# Altium schematic symbol library CAN_BUS.SCHLIB: 9 symbols
Pins are listed as number, name and electrical type; pins without a type are passive.

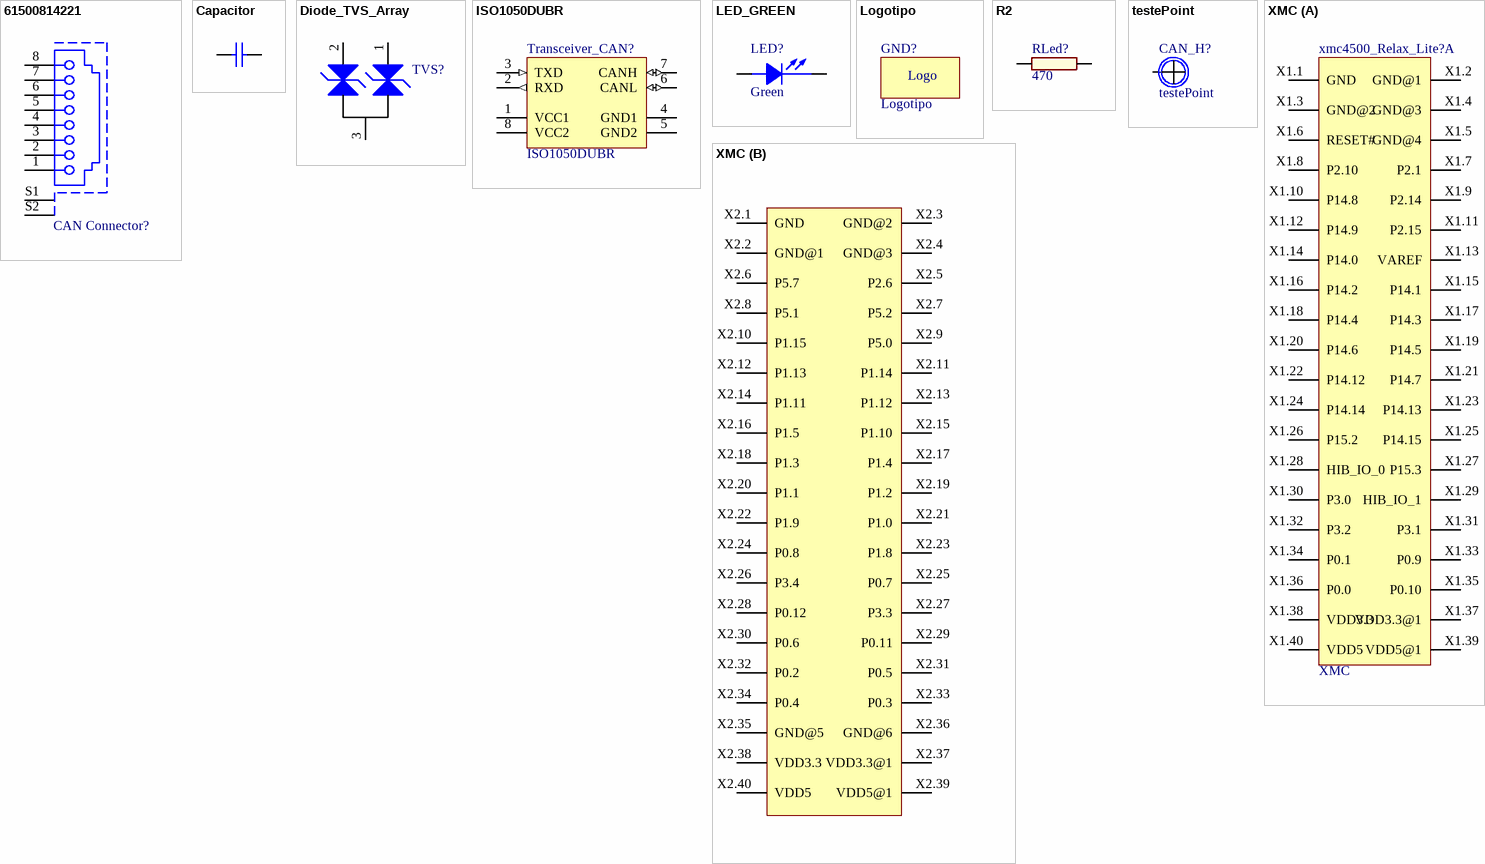
[diagram p0: symbols 61500814221 to XMC]

## 61500814221
designator CAN Connector?  (value not drawn)
Modular Jack Horizontal Shielded 8P8C Tab Down WR-MJ; Rated Current: 1.5 A; Working Voltage: 120 VAC; Withstanding Voltage: 1000 VAC; Port: 1x1; ComponentLink1Description: Manufacturer; ComponentLink1URL: http://www.we-online.de; ComponentLink2Description: Datasheet; ComponentLink2URL: http://katalog.we-online.com/em/datasheet/61500814221.pdf; Part Number: 61500814221; Published Date: September 2017; Publisher: Wurth Elektronik; Pin Number: 8P8C; Entrance: Horizontal
footprint 61500814221
pins: 1, 2, 3, 4, 5, 6, 7, 8, S1 Shield, S2 Shield

## Capacitor
designator C_?  (value not drawn)
Value: 0.01 uF
footprint CAPC1005M (Chip Capacitor, Body 1.0x0.5mm, IPC Low Density)
footprint CAPC_0402 (Chip Capacitor, Body 1.0x0.5mm, IPC Low Density)
footprint CAPC_0805 (Chip Capacitor, Body 2.0x1.3mm, IPC Low Density)
footprint CAPC_1210 (Chip Capacitor, Body 3.2x2.5mm, IPC Low Density)
footprint CAPC_1206 (Chip Capacitor, Body 3.2x1.6mm, IPC Low Density)
footprint CAPC_1812 (Chip Capacitor)
pins: 1, 2

## Diode_TVS_Array
designator TVS?  (value not drawn)
Value: SM24CANB-02HTG
footprint SOT23-3 (SOT23, 3)
pins: 1, 2, 3

## ISO1050DUBR
designator Transceiver_CAN?
Isolated CAN Transceiver, -55 to 105 degC, 8-pin SOP (DUB), Green (RoHS & no Sb/Br)
footprint DUB8_M (SOP, 8-Leads, Body 9.5x6.62mm, Pitch 2.54mm, IPC Low Density)
footprint DUB8_L (SOP, 8-Leads, Body 9.5x6.62mm, Pitch 2.54mm, IPC High Density)
footprint DUB8_M (SOP, 8-Leads, Body 9.5x6.62mm, Pitch 2.54mm, IPC Low Density)
footprint DUB8_M (SOP, 8-Leads, Body 9.5x6.62mm, Pitch 2.54mm, IPC Low Density)
pins: 1 VCC1 (power), 2 RXD (out), 3 TXD (in), 4 GND1 (power), 5 GND2 (power), 6 CANL (io), 7 CANH (io), 8 VCC2 (power)

## LED_GREEN
designator LED?, comment Green
LED 2X1.2MM 570NM GN WTR CLR SMD; Manufacturer: Kingbright; MPN: APT2012CGCK; VPN: 754-1127-1-ND; Vendor: Digikey; Value: Green
footprint CD2012-0805 (Chip Diode; Body 2.0 x 1.3 mm (LxW typ))
footprint LED100 - 3MM; pin to pad C>K
footprint LED100 - 5MM; pin to pad C>K
pins: A ANODE, C CATHODE

## Logotipo
designator GND?
footprint three_phase_converter (94x57mm Sem sensores)
footprint three_phase_converter_Sensor (94x57mm Com sensores)
footprint ucontroller (Micro Logotipo 15x15mm)
footprint FEUP_LOGO_1 (16.5 x 6.5 mm)
footprint FEUP_LOGO_2 (26.5 x 10.5 mm)
footprint PowerFlow_LOGO (16.5 x 6.5 mm)
footprint Dangerous_Logo (Micro Logotipo 15x15mm)
footprint DAB (94x57mm Sem sensores)
text: Logo

## R2
designator RLed?, comment 470
Thick film resistor, SMD 0402, 1/16W, 1%; Manufacturer: Generic; Value: 470
footprint RESC1005M (Chip Resistor, Body 1.1x0.5mm, IPC Low Density)
footprint RESC_0805 (Chip Resistor, Body 2.0x1.3mm, IPC Low Density)
footprint RESC_1206 (Chip Resistor, Body 3.2x1.6mm, IPC Low Density)
pins: 1, 2

## testePoint
designator CAN_H?
footprint PAD 2.5MM - FURO 1.25MM
footprint PAD_Dia 16MM - FURO M6
footprint PAD 2MM - FURO 1MM
footprint PAD 4MM - FURO 2MM
footprint PAD 6MM X 3.5MM- SMD
footprint PAD 2.54MM - FURO 1.02MM
footprint PAD 2MM - FURO 1.1MM
footprint PAD 6MM - FURO M4
footprint PAD_Oval (3x6mm - 1,2x4,2 Hole)
pins: 1

## XMC
designator xmc4500_Relax_Lite?
footprint XMC4500_Relax_Lite
part A pins: X1.1 GND, X1.2 GND@1, X1.3 GND@2, X1.4 GND@3, X1.5 GND@4, X1.6 RESET#, X1.7 P2.1, X1.8 P2.10, X1.9 P2.14, X1.10 P14.8, X1.11 P2.15, X1.12 P14.9, X1.13 VAREF, X1.14 P14.0, X1.15 P14.1, X1.16 P14.2, X1.17 P14.3, X1.18 P14.4, X1.19 P14.5, X1.20 P14.6, X1.21 P14.7, X1.22 P14.12, X1.23 P14.13, X1.24 P14.14, X1.25 P14.15, X1.26 P15.2, X1.27 P15.3, X1.28 HIB_IO_0, X1.29 HIB_IO_1, X1.30 P3.0, X1.31 P3.1, X1.32 P3.2, X1.33 P0.9, X1.34 P0.1, X1.35 P0.10, X1.36 P0.0, X1.37 VDD3.3@1, X1.38 VDD3.3, X1.39 VDD5@1, X1.40 VDD5
part B pins: X2.1 GND, X2.2 GND@1, X2.3 GND@2, X2.4 GND@3, X2.5 P2.6, X2.6 P5.7, X2.7 P5.2, X2.8 P5.1, X2.9 P5.0, X2.10 P1.15, X2.11 P1.14, X2.12 P1.13, X2.13 P1.12, X2.14 P1.11, X2.15 P1.10, X2.16 P1.5, X2.17 P1.4, X2.18 P1.3, X2.19 P1.2, X2.20 P1.1, X2.21 P1.0, X2.22 P1.9, X2.23 P1.8, X2.24 P0.8, X2.25 P0.7, X2.26 P3.4, X2.27 P3.3, X2.28 P0.12, X2.29 P0.11, X2.30 P0.6, X2.31 P0.5, X2.32 P0.2, X2.33 P0.3, X2.34 P0.4, X2.35 GND@5, X2.36 GND@6, X2.37 VDD3.3@1, X2.38 VDD3.3, X2.39 VDD5@1, X2.40 VDD5